# EAGLE library part LM3990 (library intelliDesk)
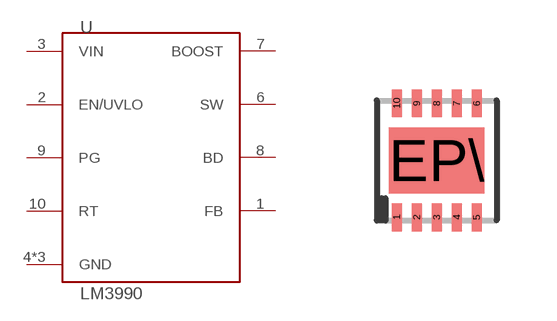
[diagram p0: symbol with the pads of DD10; footprint DD10]

Designator prefix -

## LM3990  [DD10]
1  FB
2  EN/UVLO
3  VIN
4  GND
5  GND
6  SW
7  BOOST
8  BD
9  PG
10  RT
EP\  GND

## Footprint DD10 (pad centres in mm)
smd 0.25 x 0.7: 1 -1,-1.425; 2 -0.5,-1.425; 3 0,-1.425; 4 0.5,-1.425; 5 1,-1.425; 6 1,1.425; 7 0.5,1.425; 8 0,1.425; 9 -0.5,1.425; 10 -1,1.425
smd 2.38 x 1.65: EP\ 0,0